# EAGLE library part NRF52832-CIAA-R (library NRF52832-CIAA-R)
BLE 2.4GHZ WLCSP 13" Source: Datasheet <http://infocenter.nordicsemi.com/pdf/nRF52832_PB_v1.4.pdf>
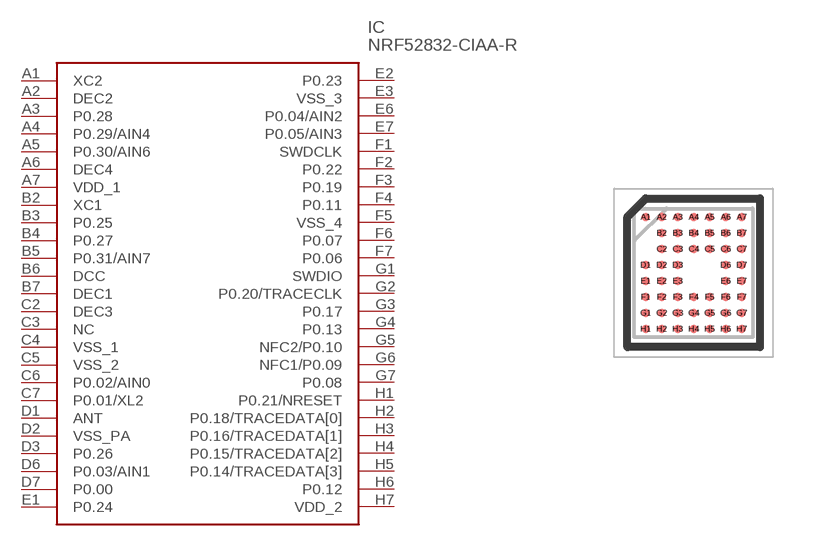
[diagram p0: symbol with the pads of BGA50C40P7X8_296X323X40; footprint BGA50C40P7X8_296X323X40]

Designator prefix IC

## NRF52832-CIAA-R (Description: BLE 2.4GHZ WLCSP 13"; Height: 0.399mm; Manufacturer_Name: Nordic Semiconductor; Manufacturer_Part_Number: NRF52832-CIAA-R; Mouser_Part_Number: 949-NRF52832-CIAA-R; Mouser_Price-Stock: https://www.mouser.com/Search/Refine.aspx?Keyword=949-NRF52832-CIAA-R)  [BGA50C40P7X8_296X323X40]
A1  XC2
A2  DEC2
A3  P0.28
A4  P0.29/AIN4
A5  P0.30/AIN6
A6  DEC4
A7  VDD_1
B2  XC1
B3  P0.25
B4  P0.27
B5  P0.31/AIN7
B6  DCC
B7  DEC1
C2  DEC3
C3  NC  nc
C4  VSS_1
C5  VSS_2
C6  P0.02/AIN0
C7  P0.01/XL2
D1  ANT
D2  VSS_PA
D3  P0.26
D6  P0.03/AIN1
D7  P0.00
E1  P0.24
E2  P0.23
E3  VSS_3
E6  P0.04/AIN2
E7  P0.05/AIN3
F1  SWDCLK
F2  P0.22
F3  P0.19
F4  P0.11
F5  VSS_4
F6  P0.07
F7  P0.06
G1  SWDIO
G2  P0.20/TRACECLK
G3  P0.17
G4  P0.13
G5  NFC2/P0.10
G6  NFC1/P0.09
G7  P0.08
H1  P0.21/NRESET
H2  P0.18/TRACEDATA[0]
H3  P0.16/TRACEDATA[1]
H4  P0.15/TRACEDATA[2]
H5  P0.14/TRACEDATA[3]
H6  P0.12
H7  VDD_2

## Footprint BGA50C40P7X8_296X323X40 (pad centres in mm)
WLCSP package
smd 0.217 x 0.217: A1 -1.2,1.4; A2 -0.8,1.4; A3 -0.4,1.4; A4 0,1.4; A5 0.4,1.4; A6 0.8,1.4; A7 1.2,1.4; B2 -0.8,1; B3 -0.4,1; B4 0,1; B5 0.4,1; B6 0.8,1; B7 1.2,1; C2 -0.8,0.6; C3 -0.4,0.6; C4 0,0.6; C5 0.4,0.6; C6 0.8,0.6; C7 1.2,0.6; D1 -1.2,0.2; D2 -0.8,0.2; D3 -0.4,0.2; D6 0.8,0.2; D7 1.2,0.2; E1 -1.2,-0.2; E2 -0.8,-0.2; E3 -0.4,-0.2; E6 0.8,-0.2; E7 1.2,-0.2; F1 -1.2,-0.6; F2 -0.8,-0.6; F3 -0.4,-0.6; F4 0,-0.6; F5 0.4,-0.6; F6 0.8,-0.6; F7 1.2,-0.6; G1 -1.2,-1; G2 -0.8,-1; G3 -0.4,-1; G4 0,-1; G5 0.4,-1; G6 0.8,-1; G7 1.2,-1; H1 -1.2,-1.4; H2 -0.8,-1.4; H3 -0.4,-1.4; H4 0,-1.4; H5 0.4,-1.4; H6 0.8,-1.4; H7 1.2,-1.4